# Altium schematic symbol library CMOS4000.SchLib: 11 symbols
Pins are listed as number, name and electrical type; pins without a type are passive.

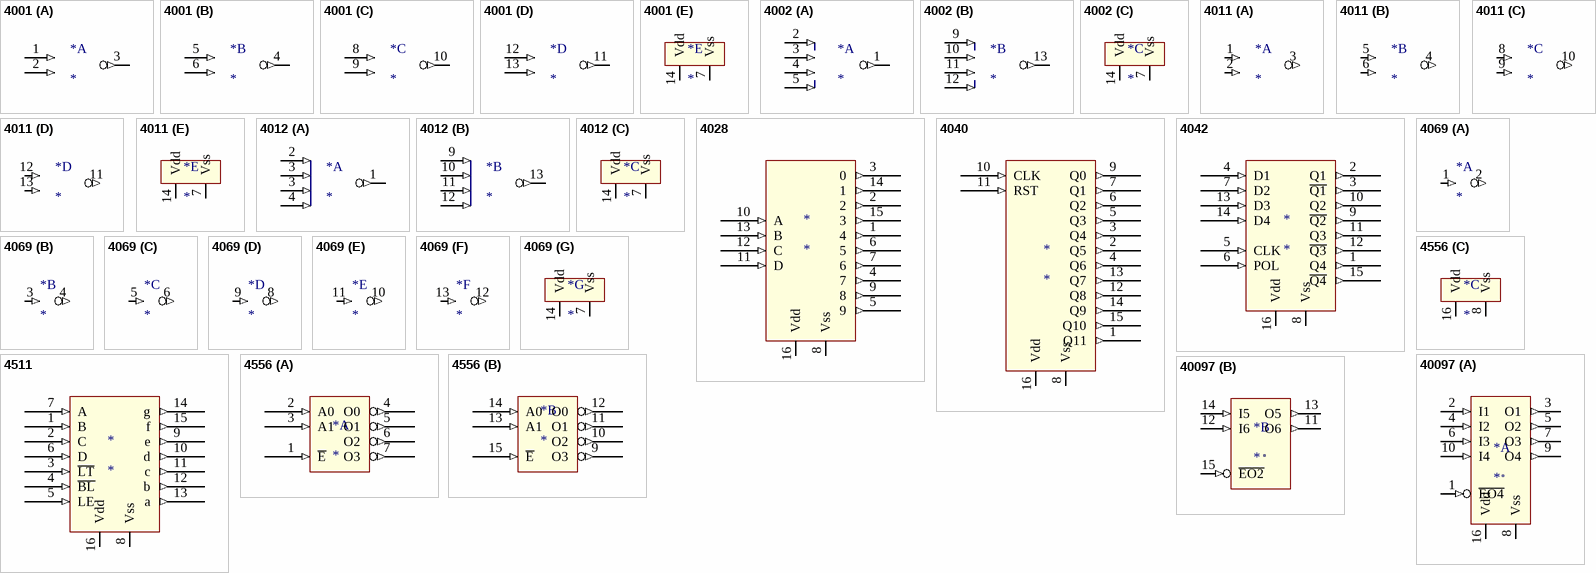
[diagram p0: symbols 4001 to 40097]

## 4001
designator *
4 x 2-input NOR gate
part A pins: 1 A (in), 2 B (in), 3 J (out)
part B pins: 4 K (out), 5 C (in), 6 D (in)
part C pins: 8 E (in), 9 F (in), 10 L (out)
part D pins: 11 M (out), 12 G (in), 13 H (in)
part E pins: 7 Vss (power), 14 Vdd (power)

## 4002
designator *
2 x 4-input NOR gate
part A pins: 1 J (out), 2 A (in), 3 B (in), 4 C (in), 5 D (in)
part B pins: 9 E (in), 10 F (in), 11 G (in), 12 H (in), 13 K (out)
part C pins: 7 Vss (power), 14 Vdd (power)

## 4011
designator *
4 x 2-input NAND gate
part A pins: 1 A (in), 2 B (in), 3 J (out)
part B pins: 4 K (out), 5 C (in), 6 D (in)
part C pins: 8 E (in), 9 F (in), 10 L (out)
part D pins: 11 M (out), 12 G (in), 13 H (in)
part E pins: 7 Vss (power), 14 Vdd (power)

## 4012
designator *
4 x 2-input NAND gate
part A pins: 1 J (out), 2 A (in), 3 B (in), 3 C (in), 4 D (in)
part B pins: 9 E (in), 10 F (in), 11 G (in), 12 H (in), 13 K (out)
part C pins: 7 Vss (power), 14 Vdd (power)

## 4028
designator *
BCD-to-Decimal decoder
footprint DIP16
pins: 1 4 (out), 2 (out), 3 0 (out), 4 7 (out), 5 9 (out), 6 5 (out), 7 6 (out), 8 Vss (power), 9 8 (out), 10 A (in), 11 D (in), 12 C (in), 13 B (in), 14 1 (out), 15 3 (out), 16 Vdd (power)

## 4040
designator *
12-stage binary ripple counter
pins: 1 Q11 (out), 2 Q5 (out), 3 Q4 (out), 4 Q6 (out), 5 Q3 (out), 6 Q2 (out), 7 Q1 (out), 8 Vss (power), 9 Q0 (out), 10 CLK (in), 11 RST (in), 12 Q8 (out), 13 Q7 (out), 14 Q9 (out), 15 Q10 (out), 16 Vdd (power)

## 4042
designator *
4 x Clocked 'D' Latch
footprint DIP16
pins: 1 Q4 (out), 2 Q1 (out), 3 ~{Q1} (out), 4 D1 (in), 5 CLK (in), 6 POL (in), 7 D2 (in), 8 Vss (power), 9 ~{Q2} (out), 10 Q2 (out), 11 Q3 (out), 12 ~{Q3} (out), 13 D3 (in), 14 D4 (in), 15 ~{Q4} (out), 16 Vdd (power)

## 4069
designator *
6 x Hex inverter
part A pins: 1 A (in), 2 A (out)
part B pins: 3 (in), 4 (out)
part C pins: 5 (in), 6 (out)
part D pins: 8 (out), 9 (in)
part E pins: 10 (out), 11 (in)
part F pins: 12 (out), 13 (in)
part G pins: 7 Vss (power), 14 Vdd (power)

## 4511
designator *
BCD-to-7 Segment Latch/Decoder/Driver
footprint DIP16
pins: 1 B (in), 2 C (in), 3 ~{LT} (in), 4 ~{BL} (in), 5 LE (in), 6 D (in), 7 A (in), 8 Vss (power), 9 e (out), 10 d (out), 11 c (out), 12 b (out), 13 a (out), 14 g (out), 15 f (out), 16 Vdd (power)

## 4556
designator *
2 x 1-of-4 decoder/demultiplexer active LOW output
part A pins: 1 ~{E} (in), 2 A0 (in), 3 A1 (in), 4 O0 (out), 5 O1 (out), 6 O2 (out), 7 O3 (out)
part B pins: 9 O3 (out), 10 O2 (out), 11 O1 (out), 12 O0 (out), 13 A1 (in), 14 A0 (in), 15 ~{E} (in)
part C pins: 8 Vss (power), 16 Vdd (power)

## 40097
designator *
3-state hex non-inverting buffer
part A pins: 1 ~{EO4} (in), 2 I1 (in), 3 O1 (out), 4 I2 (in), 5 O2 (out), 6 I3 (in), 7 O3 (out), 8 Vss (power), 9 O4 (out), 10 I4 (in), 16 Vdd (power)
part B pins: 11 O6 (out), 12 I6 (in), 13 O5 (out), 14 I5 (in), 15 ~{EO2} (in)